# Altium schematic symbol library NUVOTON_NUC130_140_LIBRARY_Library.SchLib: 15 symbols
Pins are listed as number, name and electrical type; pins without a type are passive.

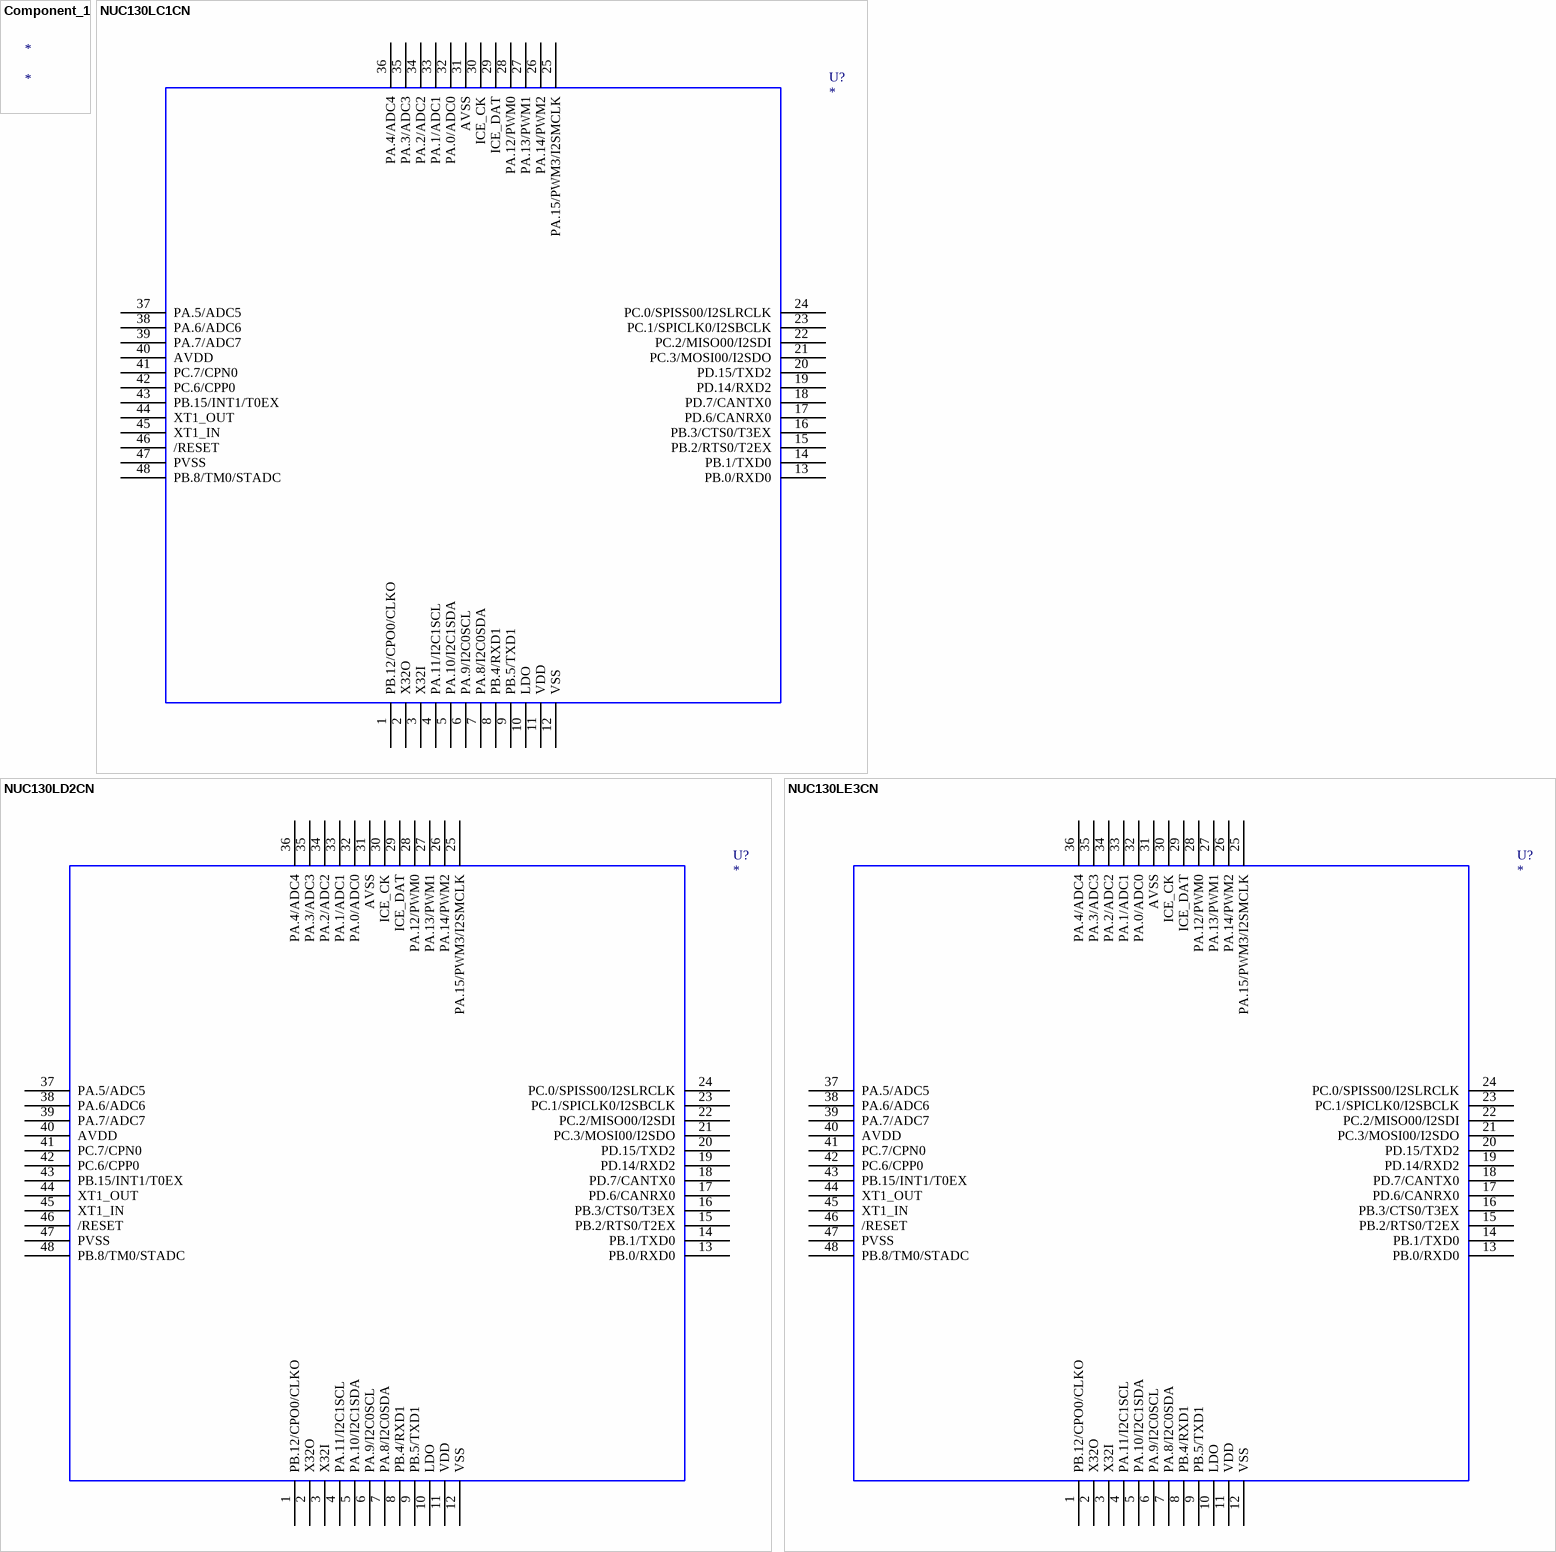
[diagram p0: symbols Component_1 to NUC130LE3CN]

## Component_1
designator *

## NUC130LC1CN
designator U?
OriginalSymbolOrigin: (0,0)
footprint MCU_LQFP_48
pins: 1 PB.12/CPO0/CLKO, 2 X32O, 3 X32I, 4 PA.11/I2C1SCL, 5 PA.10/I2C1SDA, 6 PA.9/I2C0SCL, 7 PA.8/I2C0SDA, 8 PB.4/RXD1, 9 PB.5/TXD1, 10 LDO, 11 VDD, 12 VSS, 13 PB.0/RXD0, 14 PB.1/TXD0, 15 PB.2/RTS0/T2EX, 16 PB.3/CTS0/T3EX, 17 PD.6/CANRX0, 18 PD.7/CANTX0, 19 PD.14/RXD2, 20 PD.15/TXD2, 21 PC.3/MOSI00/I2SDO, 22 PC.2/MISO00/I2SDI, 23 PC.1/SPICLK0/I2SBCLK, 24 PC.0/SPISS00/I2SLRCLK, 25 PA.15/PWM3/I2SMCLK, 26 PA.14/PWM2, 27 PA.13/PWM1, 28 PA.12/PWM0, 29 ICE_DAT, 30 ICE_CK, 31 AVSS, 32 PA.0/ADC0, 33 PA.1/ADC1, 34 PA.2/ADC2, 35 PA.3/ADC3, 36 PA.4/ADC4, 37 PA.5/ADC5, 38 PA.6/ADC6, 39 PA.7/ADC7, 40 AVDD, 41 PC.7/CPN0, 42 PC.6/CPP0, 43 PB.15/INT1/T0EX, 44 XT1_OUT, 45 XT1_IN, 46 /RESET, 47 PVSS, 48 PB.8/TM0/STADC

## NUC130LD2CN
designator U?
OriginalSymbolOrigin: (0,0)
footprint MCU_LQFP_48
pins: 1 PB.12/CPO0/CLKO, 2 X32O, 3 X32I, 4 PA.11/I2C1SCL, 5 PA.10/I2C1SDA, 6 PA.9/I2C0SCL, 7 PA.8/I2C0SDA, 8 PB.4/RXD1, 9 PB.5/TXD1, 10 LDO, 11 VDD, 12 VSS, 13 PB.0/RXD0, 14 PB.1/TXD0, 15 PB.2/RTS0/T2EX, 16 PB.3/CTS0/T3EX, 17 PD.6/CANRX0, 18 PD.7/CANTX0, 19 PD.14/RXD2, 20 PD.15/TXD2, 21 PC.3/MOSI00/I2SDO, 22 PC.2/MISO00/I2SDI, 23 PC.1/SPICLK0/I2SBCLK, 24 PC.0/SPISS00/I2SLRCLK, 25 PA.15/PWM3/I2SMCLK, 26 PA.14/PWM2, 27 PA.13/PWM1, 28 PA.12/PWM0, 29 ICE_DAT, 30 ICE_CK, 31 AVSS, 32 PA.0/ADC0, 33 PA.1/ADC1, 34 PA.2/ADC2, 35 PA.3/ADC3, 36 PA.4/ADC4, 37 PA.5/ADC5, 38 PA.6/ADC6, 39 PA.7/ADC7, 40 AVDD, 41 PC.7/CPN0, 42 PC.6/CPP0, 43 PB.15/INT1/T0EX, 44 XT1_OUT, 45 XT1_IN, 46 /RESET, 47 PVSS, 48 PB.8/TM0/STADC

## NUC130LE3CN
designator U?
OriginalSymbolOrigin: (0,0)
footprint MCU_LQFP_48
pins: 1 PB.12/CPO0/CLKO, 2 X32O, 3 X32I, 4 PA.11/I2C1SCL, 5 PA.10/I2C1SDA, 6 PA.9/I2C0SCL, 7 PA.8/I2C0SDA, 8 PB.4/RXD1, 9 PB.5/TXD1, 10 LDO, 11 VDD, 12 VSS, 13 PB.0/RXD0, 14 PB.1/TXD0, 15 PB.2/RTS0/T2EX, 16 PB.3/CTS0/T3EX, 17 PD.6/CANRX0, 18 PD.7/CANTX0, 19 PD.14/RXD2, 20 PD.15/TXD2, 21 PC.3/MOSI00/I2SDO, 22 PC.2/MISO00/I2SDI, 23 PC.1/SPICLK0/I2SBCLK, 24 PC.0/SPISS00/I2SLRCLK, 25 PA.15/PWM3/I2SMCLK, 26 PA.14/PWM2, 27 PA.13/PWM1, 28 PA.12/PWM0, 29 ICE_DAT, 30 ICE_CK, 31 AVSS, 32 PA.0/ADC0, 33 PA.1/ADC1, 34 PA.2/ADC2, 35 PA.3/ADC3, 36 PA.4/ADC4, 37 PA.5/ADC5, 38 PA.6/ADC6, 39 PA.7/ADC7, 40 AVDD, 41 PC.7/CPN0, 42 PC.6/CPP0, 43 PB.15/INT1/T0EX, 44 XT1_OUT, 45 XT1_IN, 46 /RESET, 47 PVSS, 48 PB.8/TM0/STADC

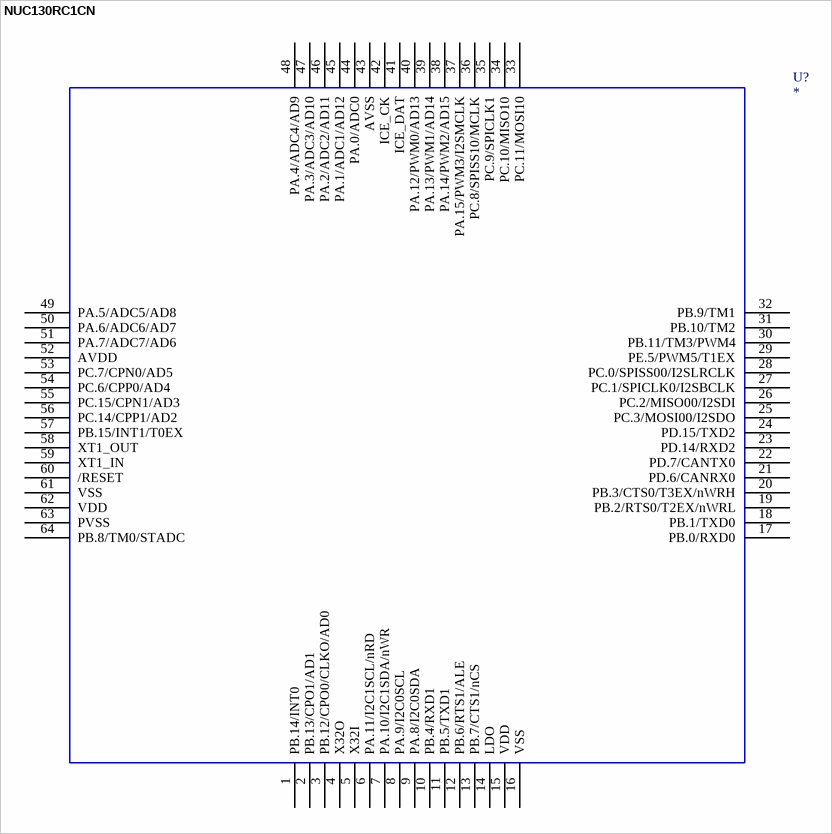
[diagram p1: symbol NUC130RC1CN]

## NUC130RC1CN
designator U?
OriginalSymbolOrigin: (0,0)
footprint MCU_LQFP_64_10x10
pins: 1 PB.14/INT0, 2 PB.13/CPO1/AD1, 3 PB.12/CPO0/CLKO/AD0, 4 X32O, 5 X32I, 6 PA.11/I2C1SCL/nRD, 7 PA.10/I2C1SDA/nWR, 8 PA.9/I2C0SCL, 9 PA.8/I2C0SDA, 10 PB.4/RXD1, 11 PB.5/TXD1, 12 PB.6/RTS1/ALE, 13 PB.7/CTS1/nCS, 14 LDO, 15 VDD, 16 VSS, 17 PB.0/RXD0, 18 PB.1/TXD0, 19 PB.2/RTS0/T2EX/nWRL, 20 PB.3/CTS0/T3EX/nWRH, 21 PD.6/CANRX0, 22 PD.7/CANTX0, 23 PD.14/RXD2, 24 PD.15/TXD2, 25 PC.3/MOSI00/I2SDO, 26 PC.2/MISO00/I2SDI, 27 PC.1/SPICLK0/I2SBCLK, 28 PC.0/SPISS00/I2SLRCLK, 29 PE.5/PWM5/T1EX, 30 PB.11/TM3/PWM4, 31 PB.10/TM2, 32 PB.9/TM1, 33 PC.11/MOSI10, 34 PC.10/MISO10, 35 PC.9/SPICLK1, 36 PC.8/SPISS10/MCLK, 37 PA.15/PWM3/I2SMCLK, 38 PA.14/PWM2/AD15, 39 PA.13/PWM1/AD14, 40 PA.12/PWM0/AD13, 41 ICE_DAT, 42 ICE_CK, 43 AVSS, 44 PA.0/ADC0, 45 PA.1/ADC1/AD12, 46 PA.2/ADC2/AD11, 47 PA.3/ADC3/AD10, 48 PA.4/ADC4/AD9, 49 PA.5/ADC5/AD8, 50 PA.6/ADC6/AD7, 51 PA.7/ADC7/AD6, 52 AVDD, 53 PC.7/CPN0/AD5, 54 PC.6/CPP0/AD4, 55 PC.15/CPN1/AD3, 56 PC.14/CPP1/AD2, 57 PB.15/INT1/T0EX, 58 XT1_OUT, 59 XT1_IN, 60 /RESET, 61 VSS, 62 VDD, 63 PVSS, 64 PB.8/TM0/STADC

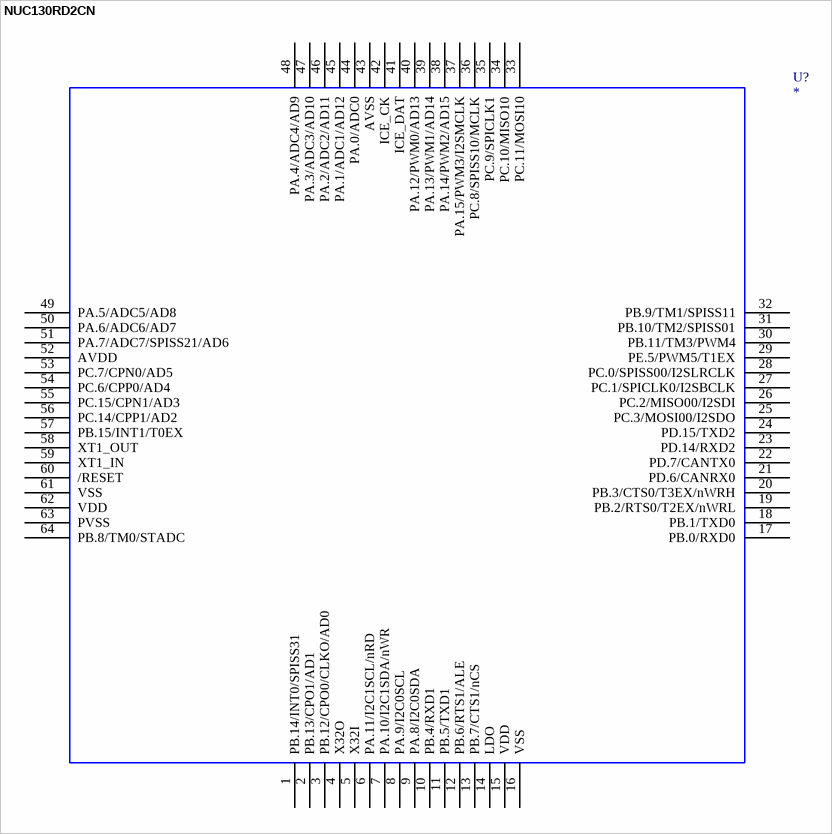
[diagram p2: symbol NUC130RD2CN]

## NUC130RD2CN
designator U?
OriginalSymbolOrigin: (0,0)
footprint MCU_LQFP_64_10x10
pins: 1 PB.14/INT0/SPISS31, 2 PB.13/CPO1/AD1, 3 PB.12/CPO0/CLKO/AD0, 4 X32O, 5 X32I, 6 PA.11/I2C1SCL/nRD, 7 PA.10/I2C1SDA/nWR, 8 PA.9/I2C0SCL, 9 PA.8/I2C0SDA, 10 PB.4/RXD1, 11 PB.5/TXD1, 12 PB.6/RTS1/ALE, 13 PB.7/CTS1/nCS, 14 LDO, 15 VDD, 16 VSS, 17 PB.0/RXD0, 18 PB.1/TXD0, 19 PB.2/RTS0/T2EX/nWRL, 20 PB.3/CTS0/T3EX/nWRH, 21 PD.6/CANRX0, 22 PD.7/CANTX0, 23 PD.14/RXD2, 24 PD.15/TXD2, 25 PC.3/MOSI00/I2SDO, 26 PC.2/MISO00/I2SDI, 27 PC.1/SPICLK0/I2SBCLK, 28 PC.0/SPISS00/I2SLRCLK, 29 PE.5/PWM5/T1EX, 30 PB.11/TM3/PWM4, 31 PB.10/TM2/SPISS01, 32 PB.9/TM1/SPISS11, 33 PC.11/MOSI10, 34 PC.10/MISO10, 35 PC.9/SPICLK1, 36 PC.8/SPISS10/MCLK, 37 PA.15/PWM3/I2SMCLK, 38 PA.14/PWM2/AD15, 39 PA.13/PWM1/AD14, 40 PA.12/PWM0/AD13, 41 ICE_DAT, 42 ICE_CK, 43 AVSS, 44 PA.0/ADC0, 45 PA.1/ADC1/AD12, 46 PA.2/ADC2/AD11, 47 PA.3/ADC3/AD10, 48 PA.4/ADC4/AD9, 49 PA.5/ADC5/AD8, 50 PA.6/ADC6/AD7, 51 PA.7/ADC7/SPISS21/AD6, 52 AVDD, 53 PC.7/CPN0/AD5, 54 PC.6/CPP0/AD4, 55 PC.15/CPN1/AD3, 56 PC.14/CPP1/AD2, 57 PB.15/INT1/T0EX, 58 XT1_OUT, 59 XT1_IN, 60 /RESET, 61 VSS, 62 VDD, 63 PVSS, 64 PB.8/TM0/STADC

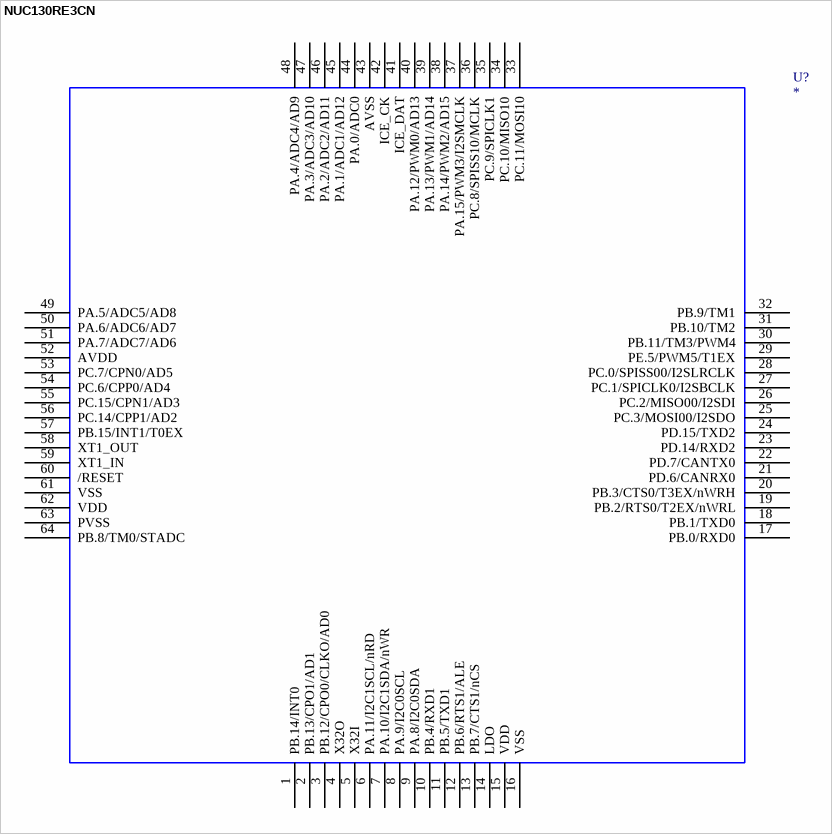
[diagram p3: symbol NUC130RE3CN]

## NUC130RE3CN
designator U?
OriginalSymbolOrigin: (0,0)
footprint MCU_LQFP_64_10x10
pins: 1 PB.14/INT0, 2 PB.13/CPO1/AD1, 3 PB.12/CPO0/CLKO/AD0, 4 X32O, 5 X32I, 6 PA.11/I2C1SCL/nRD, 7 PA.10/I2C1SDA/nWR, 8 PA.9/I2C0SCL, 9 PA.8/I2C0SDA, 10 PB.4/RXD1, 11 PB.5/TXD1, 12 PB.6/RTS1/ALE, 13 PB.7/CTS1/nCS, 14 LDO, 15 VDD, 16 VSS, 17 PB.0/RXD0, 18 PB.1/TXD0, 19 PB.2/RTS0/T2EX/nWRL, 20 PB.3/CTS0/T3EX/nWRH, 21 PD.6/CANRX0, 22 PD.7/CANTX0, 23 PD.14/RXD2, 24 PD.15/TXD2, 25 PC.3/MOSI00/I2SDO, 26 PC.2/MISO00/I2SDI, 27 PC.1/SPICLK0/I2SBCLK, 28 PC.0/SPISS00/I2SLRCLK, 29 PE.5/PWM5/T1EX, 30 PB.11/TM3/PWM4, 31 PB.10/TM2, 32 PB.9/TM1, 33 PC.11/MOSI10, 34 PC.10/MISO10, 35 PC.9/SPICLK1, 36 PC.8/SPISS10/MCLK, 37 PA.15/PWM3/I2SMCLK, 38 PA.14/PWM2/AD15, 39 PA.13/PWM1/AD14, 40 PA.12/PWM0/AD13, 41 ICE_DAT, 42 ICE_CK, 43 AVSS, 44 PA.0/ADC0, 45 PA.1/ADC1/AD12, 46 PA.2/ADC2/AD11, 47 PA.3/ADC3/AD10, 48 PA.4/ADC4/AD9, 49 PA.5/ADC5/AD8, 50 PA.6/ADC6/AD7, 51 PA.7/ADC7/AD6, 52 AVDD, 53 PC.7/CPN0/AD5, 54 PC.6/CPP0/AD4, 55 PC.15/CPN1/AD3, 56 PC.14/CPP1/AD2, 57 PB.15/INT1/T0EX, 58 XT1_OUT, 59 XT1_IN, 60 /RESET, 61 VSS, 62 VDD, 63 PVSS, 64 PB.8/TM0/STADC

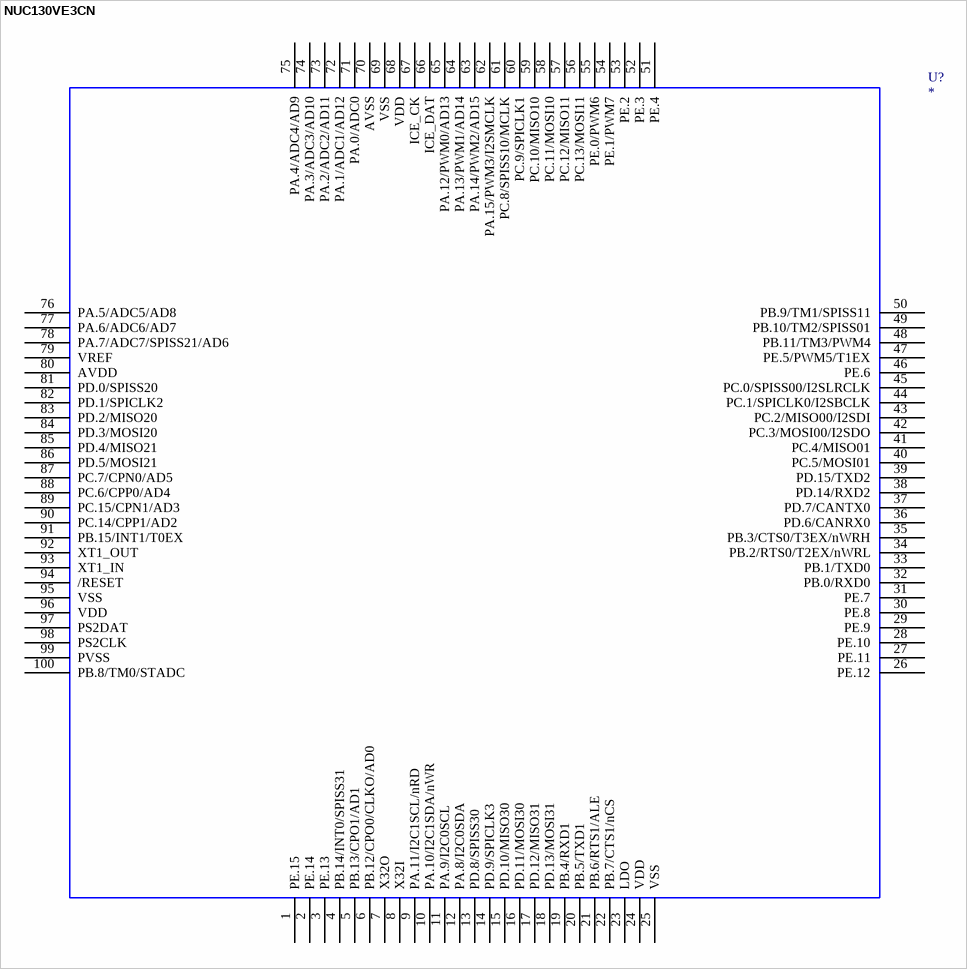
[diagram p4: symbol NUC130VE3CN]

## NUC130VE3CN
designator U?
OriginalSymbolOrigin: (0,0)
footprint MCU_LQFP_100
pins: 1 PE.15, 2 PE.14, 3 PE.13, 4 PB.14/INT0/SPISS31, 5 PB.13/CPO1/AD1, 6 PB.12/CPO0/CLKO/AD0, 7 X32O, 8 X32I, 9 PA.11/I2C1SCL/nRD, 10 PA.10/I2C1SDA/nWR, 11 PA.9/I2C0SCL, 12 PA.8/I2C0SDA, 13 PD.8/SPISS30, 14 PD.9/SPICLK3, 15 PD.10/MISO30, 16 PD.11/MOSI30, 17 PD.12/MISO31, 18 PD.13/MOSI31, 19 PB.4/RXD1, 20 PB.5/TXD1, 21 PB.6/RTS1/ALE, 22 PB.7/CTS1/nCS, 23 LDO, 24 VDD, 25 VSS, 26 PE.12, 27 PE.11, 28 PE.10, 29 PE.9, 30 PE.8, 31 PE.7, 32 PB.0/RXD0, 33 PB.1/TXD0, 34 PB.2/RTS0/T2EX/nWRL, 35 PB.3/CTS0/T3EX/nWRH, 36 PD.6/CANRX0, 37 PD.7/CANTX0, 38 PD.14/RXD2, 39 PD.15/TXD2, 40 PC.5/MOSI01, 41 PC.4/MISO01, 42 PC.3/MOSI00/I2SDO, 43 PC.2/MISO00/I2SDI, 44 PC.1/SPICLK0/I2SBCLK, 45 PC.0/SPISS00/I2SLRCLK, 46 PE.6, 47 PE.5/PWM5/T1EX, 48 PB.11/TM3/PWM4, 49 PB.10/TM2/SPISS01, 50 PB.9/TM1/SPISS11, 51 PE.4, 52 PE.3, 53 PE.2, 54 PE.1/PWM7, 55 PE.0/PWM6, 56 PC.13/MOSI11, 57 PC.12/MISO11, 58 PC.11/MOSI10, 59 PC.10/MISO10, 60 PC.9/SPICLK1, 61 PC.8/SPISS10/MCLK, 62 PA.15/PWM3/I2SMCLK, 63 PA.14/PWM2/AD15, 64 PA.13/PWM1/AD14, 65 PA.12/PWM0/AD13, 66 ICE_DAT, 67 ICE_CK, 68 VDD, 69 VSS, 70 AVSS, 71 PA.0/ADC0, 72 PA.1/ADC1/AD12, 73 PA.2/ADC2/AD11, 74 PA.3/ADC3/AD10, 75 PA.4/ADC4/AD9, 76 PA.5/ADC5/AD8, 77 PA.6/ADC6/AD7, 78 PA.7/ADC7/SPISS21/AD6, 79 VREF, 80 AVDD, 81 PD.0/SPISS20, 82 PD.1/SPICLK2, 83 PD.2/MISO20, 84 PD.3/MOSI20, 85 PD.4/MISO21, 86 PD.5/MOSI21, 87 PC.7/CPN0/AD5, 88 PC.6/CPP0/AD4, 89 PC.15/CPN1/AD3, 90 PC.14/CPP1/AD2, 91 PB.15/INT1/T0EX, 92 XT1_OUT, 93 XT1_IN, 94 /RESET, 95 VSS, 96 VDD, 97 PS2DAT, 98 PS2CLK, 99 PVSS, 100 PB.8/TM0/STADC

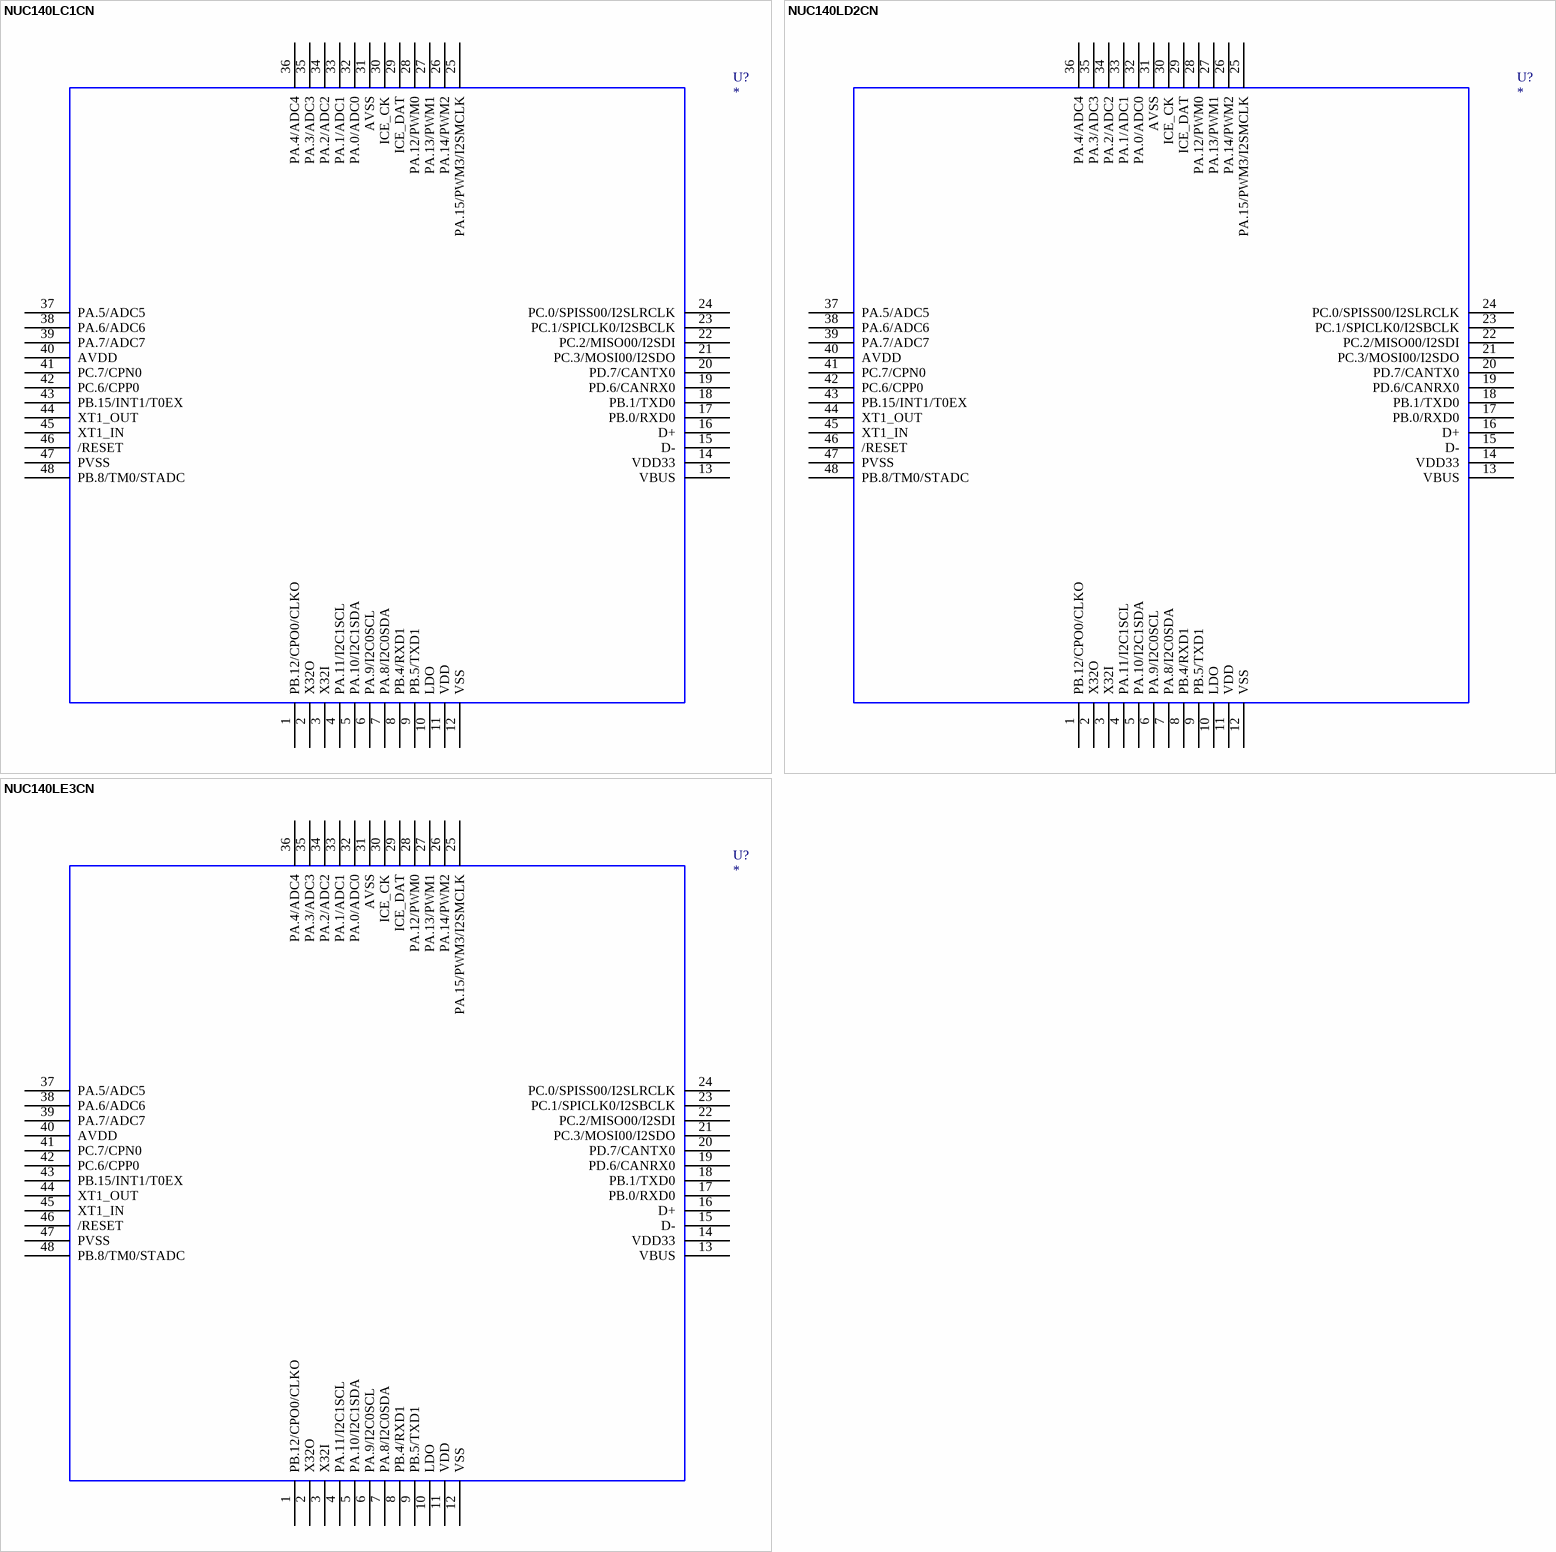
[diagram p5: symbols NUC140LC1CN to NUC140LE3CN]

## NUC140LC1CN
designator U?
OriginalSymbolOrigin: (0,0)
footprint MCU_LQFP_48
pins: 1 PB.12/CPO0/CLKO, 2 X32O, 3 X32I, 4 PA.11/I2C1SCL, 5 PA.10/I2C1SDA, 6 PA.9/I2C0SCL, 7 PA.8/I2C0SDA, 8 PB.4/RXD1, 9 PB.5/TXD1, 10 LDO, 11 VDD, 12 VSS, 13 VBUS, 14 VDD33, 15 D-, 16 D+, 17 PB.0/RXD0, 18 PB.1/TXD0, 19 PD.6/CANRX0, 20 PD.7/CANTX0, 21 PC.3/MOSI00/I2SDO, 22 PC.2/MISO00/I2SDI, 23 PC.1/SPICLK0/I2SBCLK, 24 PC.0/SPISS00/I2SLRCLK, 25 PA.15/PWM3/I2SMCLK, 26 PA.14/PWM2, 27 PA.13/PWM1, 28 PA.12/PWM0, 29 ICE_DAT, 30 ICE_CK, 31 AVSS, 32 PA.0/ADC0, 33 PA.1/ADC1, 34 PA.2/ADC2, 35 PA.3/ADC3, 36 PA.4/ADC4, 37 PA.5/ADC5, 38 PA.6/ADC6, 39 PA.7/ADC7, 40 AVDD, 41 PC.7/CPN0, 42 PC.6/CPP0, 43 PB.15/INT1/T0EX, 44 XT1_OUT, 45 XT1_IN, 46 /RESET, 47 PVSS, 48 PB.8/TM0/STADC

## NUC140LD2CN
designator U?
OriginalSymbolOrigin: (0,0)
footprint MCU_LQFP_48
pins: 1 PB.12/CPO0/CLKO, 2 X32O, 3 X32I, 4 PA.11/I2C1SCL, 5 PA.10/I2C1SDA, 6 PA.9/I2C0SCL, 7 PA.8/I2C0SDA, 8 PB.4/RXD1, 9 PB.5/TXD1, 10 LDO, 11 VDD, 12 VSS, 13 VBUS, 14 VDD33, 15 D-, 16 D+, 17 PB.0/RXD0, 18 PB.1/TXD0, 19 PD.6/CANRX0, 20 PD.7/CANTX0, 21 PC.3/MOSI00/I2SDO, 22 PC.2/MISO00/I2SDI, 23 PC.1/SPICLK0/I2SBCLK, 24 PC.0/SPISS00/I2SLRCLK, 25 PA.15/PWM3/I2SMCLK, 26 PA.14/PWM2, 27 PA.13/PWM1, 28 PA.12/PWM0, 29 ICE_DAT, 30 ICE_CK, 31 AVSS, 32 PA.0/ADC0, 33 PA.1/ADC1, 34 PA.2/ADC2, 35 PA.3/ADC3, 36 PA.4/ADC4, 37 PA.5/ADC5, 38 PA.6/ADC6, 39 PA.7/ADC7, 40 AVDD, 41 PC.7/CPN0, 42 PC.6/CPP0, 43 PB.15/INT1/T0EX, 44 XT1_OUT, 45 XT1_IN, 46 /RESET, 47 PVSS, 48 PB.8/TM0/STADC

## NUC140LE3CN
designator U?
OriginalSymbolOrigin: (0,0)
footprint MCU_LQFP_48
pins: 1 PB.12/CPO0/CLKO, 2 X32O, 3 X32I, 4 PA.11/I2C1SCL, 5 PA.10/I2C1SDA, 6 PA.9/I2C0SCL, 7 PA.8/I2C0SDA, 8 PB.4/RXD1, 9 PB.5/TXD1, 10 LDO, 11 VDD, 12 VSS, 13 VBUS, 14 VDD33, 15 D-, 16 D+, 17 PB.0/RXD0, 18 PB.1/TXD0, 19 PD.6/CANRX0, 20 PD.7/CANTX0, 21 PC.3/MOSI00/I2SDO, 22 PC.2/MISO00/I2SDI, 23 PC.1/SPICLK0/I2SBCLK, 24 PC.0/SPISS00/I2SLRCLK, 25 PA.15/PWM3/I2SMCLK, 26 PA.14/PWM2, 27 PA.13/PWM1, 28 PA.12/PWM0, 29 ICE_DAT, 30 ICE_CK, 31 AVSS, 32 PA.0/ADC0, 33 PA.1/ADC1, 34 PA.2/ADC2, 35 PA.3/ADC3, 36 PA.4/ADC4, 37 PA.5/ADC5, 38 PA.6/ADC6, 39 PA.7/ADC7, 40 AVDD, 41 PC.7/CPN0, 42 PC.6/CPP0, 43 PB.15/INT1/T0EX, 44 XT1_OUT, 45 XT1_IN, 46 /RESET, 47 PVSS, 48 PB.8/TM0/STADC

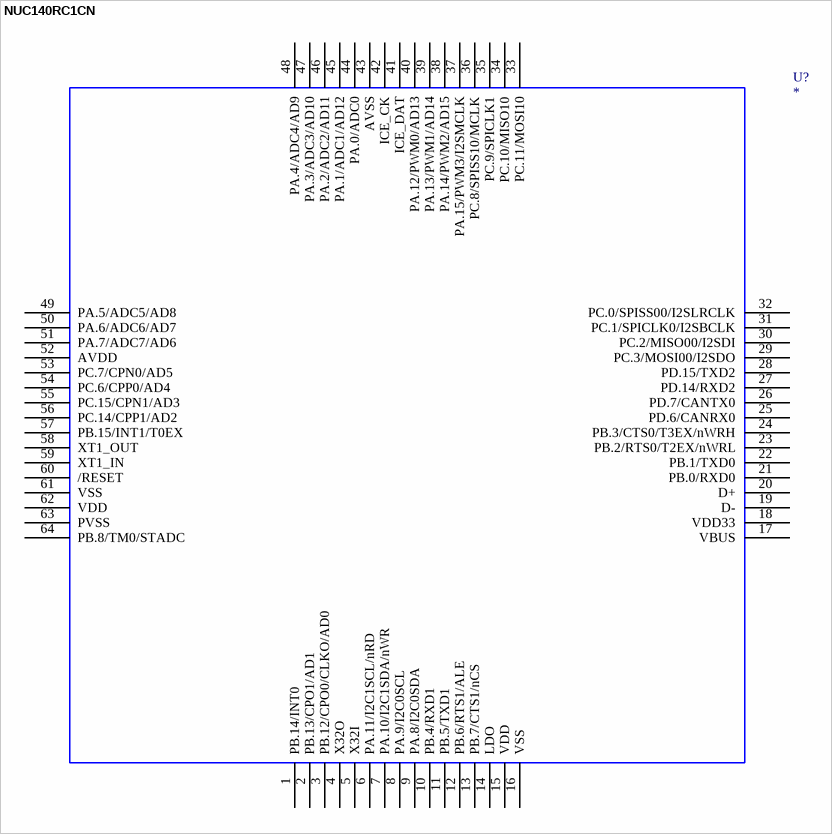
[diagram p6: symbol NUC140RC1CN]

## NUC140RC1CN
designator U?
OriginalSymbolOrigin: (0,0)
footprint MCU_LQFP_64_10x10
pins: 1 PB.14/INT0, 2 PB.13/CPO1/AD1, 3 PB.12/CPO0/CLKO/AD0, 4 X32O, 5 X32I, 6 PA.11/I2C1SCL/nRD, 7 PA.10/I2C1SDA/nWR, 8 PA.9/I2C0SCL, 9 PA.8/I2C0SDA, 10 PB.4/RXD1, 11 PB.5/TXD1, 12 PB.6/RTS1/ALE, 13 PB.7/CTS1/nCS, 14 LDO, 15 VDD, 16 VSS, 17 VBUS, 18 VDD33, 19 D-, 20 D+, 21 PB.0/RXD0, 22 PB.1/TXD0, 23 PB.2/RTS0/T2EX/nWRL, 24 PB.3/CTS0/T3EX/nWRH, 25 PD.6/CANRX0, 26 PD.7/CANTX0, 27 PD.14/RXD2, 28 PD.15/TXD2, 29 PC.3/MOSI00/I2SDO, 30 PC.2/MISO00/I2SDI, 31 PC.1/SPICLK0/I2SBCLK, 32 PC.0/SPISS00/I2SLRCLK, 33 PC.11/MOSI10, 34 PC.10/MISO10, 35 PC.9/SPICLK1, 36 PC.8/SPISS10/MCLK, 37 PA.15/PWM3/I2SMCLK, 38 PA.14/PWM2/AD15, 39 PA.13/PWM1/AD14, 40 PA.12/PWM0/AD13, 41 ICE_DAT, 42 ICE_CK, 43 AVSS, 44 PA.0/ADC0, 45 PA.1/ADC1/AD12, 46 PA.2/ADC2/AD11, 47 PA.3/ADC3/AD10, 48 PA.4/ADC4/AD9, 49 PA.5/ADC5/AD8, 50 PA.6/ADC6/AD7, 51 PA.7/ADC7/AD6, 52 AVDD, 53 PC.7/CPN0/AD5, 54 PC.6/CPP0/AD4, 55 PC.15/CPN1/AD3, 56 PC.14/CPP1/AD2, 57 PB.15/INT1/T0EX, 58 XT1_OUT, 59 XT1_IN, 60 /RESET, 61 VSS, 62 VDD, 63 PVSS, 64 PB.8/TM0/STADC

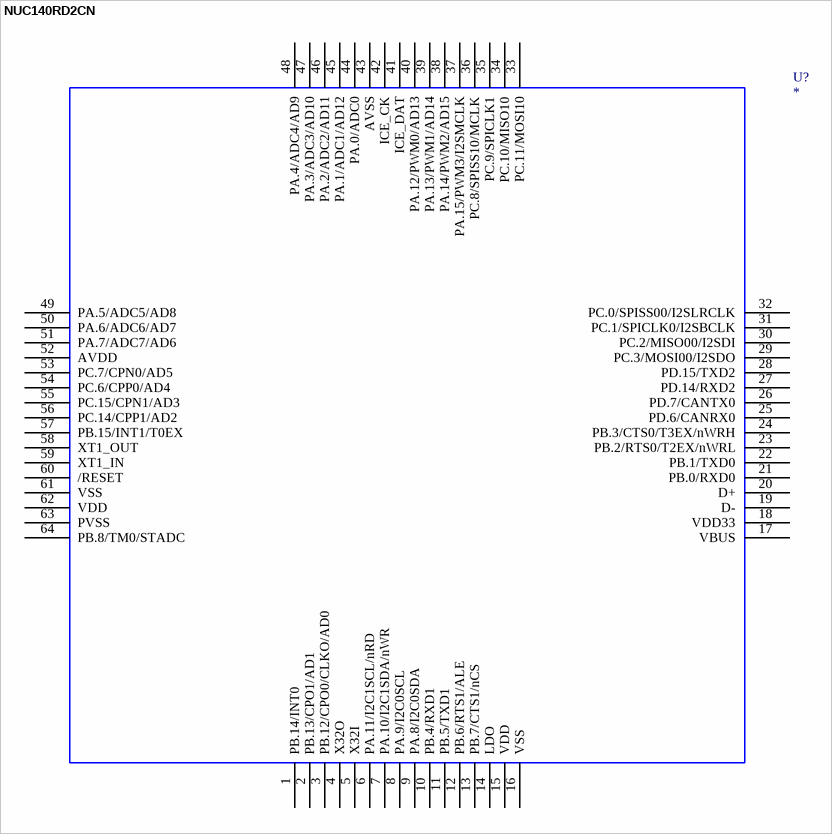
[diagram p7: symbol NUC140RD2CN]

## NUC140RD2CN
designator U?
OriginalSymbolOrigin: (0,0)
footprint MCU_LQFP_64_10x10
pins: 1 PB.14/INT0, 2 PB.13/CPO1/AD1, 3 PB.12/CPO0/CLKO/AD0, 4 X32O, 5 X32I, 6 PA.11/I2C1SCL/nRD, 7 PA.10/I2C1SDA/nWR, 8 PA.9/I2C0SCL, 9 PA.8/I2C0SDA, 10 PB.4/RXD1, 11 PB.5/TXD1, 12 PB.6/RTS1/ALE, 13 PB.7/CTS1/nCS, 14 LDO, 15 VDD, 16 VSS, 17 VBUS, 18 VDD33, 19 D-, 20 D+, 21 PB.0/RXD0, 22 PB.1/TXD0, 23 PB.2/RTS0/T2EX/nWRL, 24 PB.3/CTS0/T3EX/nWRH, 25 PD.6/CANRX0, 26 PD.7/CANTX0, 27 PD.14/RXD2, 28 PD.15/TXD2, 29 PC.3/MOSI00/I2SDO, 30 PC.2/MISO00/I2SDI, 31 PC.1/SPICLK0/I2SBCLK, 32 PC.0/SPISS00/I2SLRCLK, 33 PC.11/MOSI10, 34 PC.10/MISO10, 35 PC.9/SPICLK1, 36 PC.8/SPISS10/MCLK, 37 PA.15/PWM3/I2SMCLK, 38 PA.14/PWM2/AD15, 39 PA.13/PWM1/AD14, 40 PA.12/PWM0/AD13, 41 ICE_DAT, 42 ICE_CK, 43 AVSS, 44 PA.0/ADC0, 45 PA.1/ADC1/AD12, 46 PA.2/ADC2/AD11, 47 PA.3/ADC3/AD10, 48 PA.4/ADC4/AD9, 49 PA.5/ADC5/AD8, 50 PA.6/ADC6/AD7, 51 PA.7/ADC7/AD6, 52 AVDD, 53 PC.7/CPN0/AD5, 54 PC.6/CPP0/AD4, 55 PC.15/CPN1/AD3, 56 PC.14/CPP1/AD2, 57 PB.15/INT1/T0EX, 58 XT1_OUT, 59 XT1_IN, 60 /RESET, 61 VSS, 62 VDD, 63 PVSS, 64 PB.8/TM0/STADC

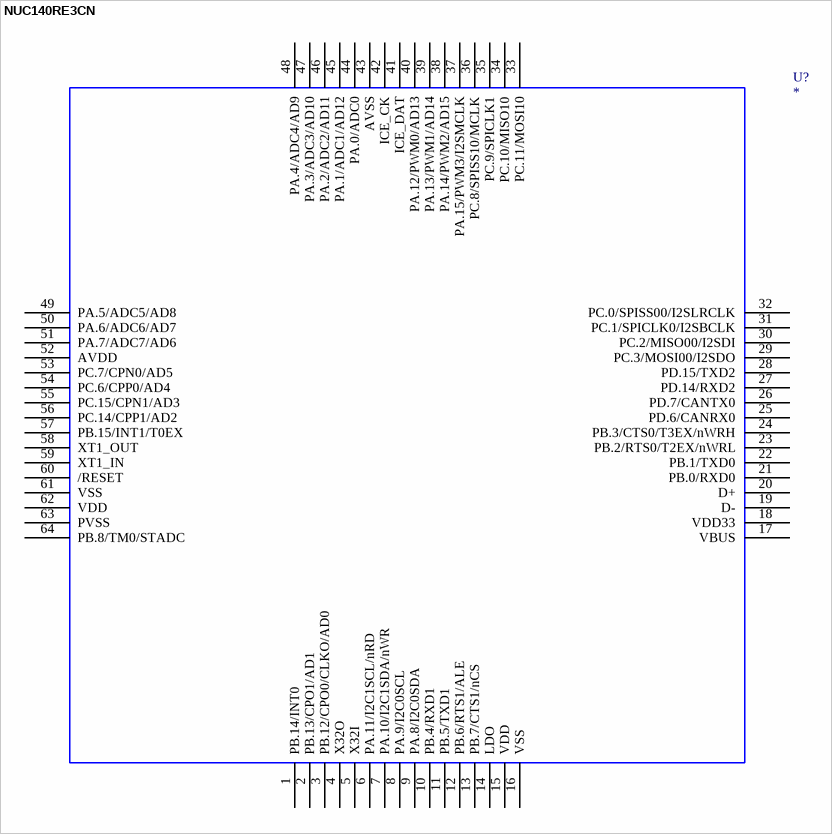
[diagram p8: symbol NUC140RE3CN]

## NUC140RE3CN
designator U?
OriginalSymbolOrigin: (0,0)
footprint MCU_LQFP_64_10x10
pins: 1 PB.14/INT0, 2 PB.13/CPO1/AD1, 3 PB.12/CPO0/CLKO/AD0, 4 X32O, 5 X32I, 6 PA.11/I2C1SCL/nRD, 7 PA.10/I2C1SDA/nWR, 8 PA.9/I2C0SCL, 9 PA.8/I2C0SDA, 10 PB.4/RXD1, 11 PB.5/TXD1, 12 PB.6/RTS1/ALE, 13 PB.7/CTS1/nCS, 14 LDO, 15 VDD, 16 VSS, 17 VBUS, 18 VDD33, 19 D-, 20 D+, 21 PB.0/RXD0, 22 PB.1/TXD0, 23 PB.2/RTS0/T2EX/nWRL, 24 PB.3/CTS0/T3EX/nWRH, 25 PD.6/CANRX0, 26 PD.7/CANTX0, 27 PD.14/RXD2, 28 PD.15/TXD2, 29 PC.3/MOSI00/I2SDO, 30 PC.2/MISO00/I2SDI, 31 PC.1/SPICLK0/I2SBCLK, 32 PC.0/SPISS00/I2SLRCLK, 33 PC.11/MOSI10, 34 PC.10/MISO10, 35 PC.9/SPICLK1, 36 PC.8/SPISS10/MCLK, 37 PA.15/PWM3/I2SMCLK, 38 PA.14/PWM2/AD15, 39 PA.13/PWM1/AD14, 40 PA.12/PWM0/AD13, 41 ICE_DAT, 42 ICE_CK, 43 AVSS, 44 PA.0/ADC0, 45 PA.1/ADC1/AD12, 46 PA.2/ADC2/AD11, 47 PA.3/ADC3/AD10, 48 PA.4/ADC4/AD9, 49 PA.5/ADC5/AD8, 50 PA.6/ADC6/AD7, 51 PA.7/ADC7/AD6, 52 AVDD, 53 PC.7/CPN0/AD5, 54 PC.6/CPP0/AD4, 55 PC.15/CPN1/AD3, 56 PC.14/CPP1/AD2, 57 PB.15/INT1/T0EX, 58 XT1_OUT, 59 XT1_IN, 60 /RESET, 61 VSS, 62 VDD, 63 PVSS, 64 PB.8/TM0/STADC

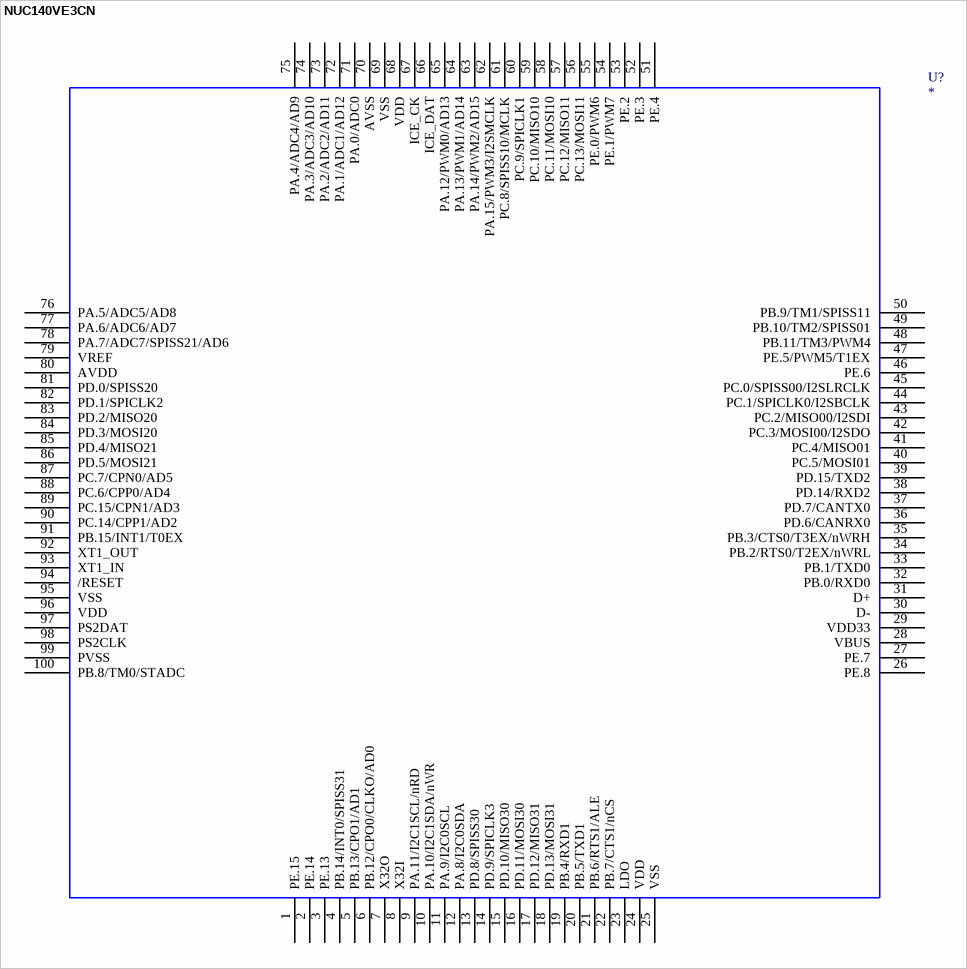
[diagram p9: symbol NUC140VE3CN]

## NUC140VE3CN
designator U?
OriginalSymbolOrigin: (0,0)
footprint MCU_LQFP_100
pins: 1 PE.15, 2 PE.14, 3 PE.13, 4 PB.14/INT0/SPISS31, 5 PB.13/CPO1/AD1, 6 PB.12/CPO0/CLKO/AD0, 7 X32O, 8 X32I, 9 PA.11/I2C1SCL/nRD, 10 PA.10/I2C1SDA/nWR, 11 PA.9/I2C0SCL, 12 PA.8/I2C0SDA, 13 PD.8/SPISS30, 14 PD.9/SPICLK3, 15 PD.10/MISO30, 16 PD.11/MOSI30, 17 PD.12/MISO31, 18 PD.13/MOSI31, 19 PB.4/RXD1, 20 PB.5/TXD1, 21 PB.6/RTS1/ALE, 22 PB.7/CTS1/nCS, 23 LDO, 24 VDD, 25 VSS, 26 PE.8, 27 PE.7, 28 VBUS, 29 VDD33, 30 D-, 31 D+, 32 PB.0/RXD0, 33 PB.1/TXD0, 34 PB.2/RTS0/T2EX/nWRL, 35 PB.3/CTS0/T3EX/nWRH, 36 PD.6/CANRX0, 37 PD.7/CANTX0, 38 PD.14/RXD2, 39 PD.15/TXD2, 40 PC.5/MOSI01, 41 PC.4/MISO01, 42 PC.3/MOSI00/I2SDO, 43 PC.2/MISO00/I2SDI, 44 PC.1/SPICLK0/I2SBCLK, 45 PC.0/SPISS00/I2SLRCLK, 46 PE.6, 47 PE.5/PWM5/T1EX, 48 PB.11/TM3/PWM4, 49 PB.10/TM2/SPISS01, 50 PB.9/TM1/SPISS11, 51 PE.4, 52 PE.3, 53 PE.2, 54 PE.1/PWM7, 55 PE.0/PWM6, 56 PC.13/MOSI11, 57 PC.12/MISO11, 58 PC.11/MOSI10, 59 PC.10/MISO10, 60 PC.9/SPICLK1, 61 PC.8/SPISS10/MCLK, 62 PA.15/PWM3/I2SMCLK, 63 PA.14/PWM2/AD15, 64 PA.13/PWM1/AD14, 65 PA.12/PWM0/AD13, 66 ICE_DAT, 67 ICE_CK, 68 VDD, 69 VSS, 70 AVSS, 71 PA.0/ADC0, 72 PA.1/ADC1/AD12, 73 PA.2/ADC2/AD11, 74 PA.3/ADC3/AD10, 75 PA.4/ADC4/AD9, 76 PA.5/ADC5/AD8, 77 PA.6/ADC6/AD7, 78 PA.7/ADC7/SPISS21/AD6, 79 VREF, 80 AVDD, 81 PD.0/SPISS20, 82 PD.1/SPICLK2, 83 PD.2/MISO20, 84 PD.3/MOSI20, 85 PD.4/MISO21, 86 PD.5/MOSI21, 87 PC.7/CPN0/AD5, 88 PC.6/CPP0/AD4, 89 PC.15/CPN1/AD3, 90 PC.14/CPP1/AD2, 91 PB.15/INT1/T0EX, 92 XT1_OUT, 93 XT1_IN, 94 /RESET, 95 VSS, 96 VDD, 97 PS2DAT, 98 PS2CLK, 99 PVSS, 100 PB.8/TM0/STADC